# EAGLE library part S8B-PH-SM4-TB(LF)(SN) (library rallyESP_lib)
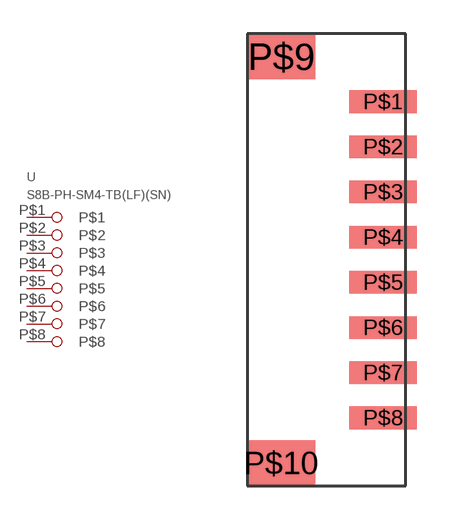
[diagram p0: symbol with the pads of 8_PIN_SMD_2MM; footprint 8_PIN_SMD_2MM]

Designator prefix -

## S8B-PH-SM4-TB(LF)(SN)  [8_PIN_SMD_2MM]
P$1  P$1
P$2  P$2
P$3  P$3
P$4  P$4
P$5  P$5
P$6  P$6
P$7  P$7
P$8  P$8

## Footprint 8_PIN_SMD_2MM (pad centres in mm)
smd 3 x 1: P$1 0,8; P$2 0,6; P$3 0,4; P$4 0,2; P$5 0,0; P$6 0,-2; P$7 0,-4; P$8 0,-6
smd 3 x 2: P$9 -4.5,10; P$10 -4.5,-8